# Altium footprint library TPS76912DBVR.PcbLib: 3 footprints
Each footprint in its own frame and in the unit in brackets; x right, y up, seen from the top. Pads: shape width x height; smd on the part's side, far side on the other; paste and mask are expansions set on the pad; w line width, h text height; cw(c..) or ccw(c..) is an arc to the next point about the centre after c.
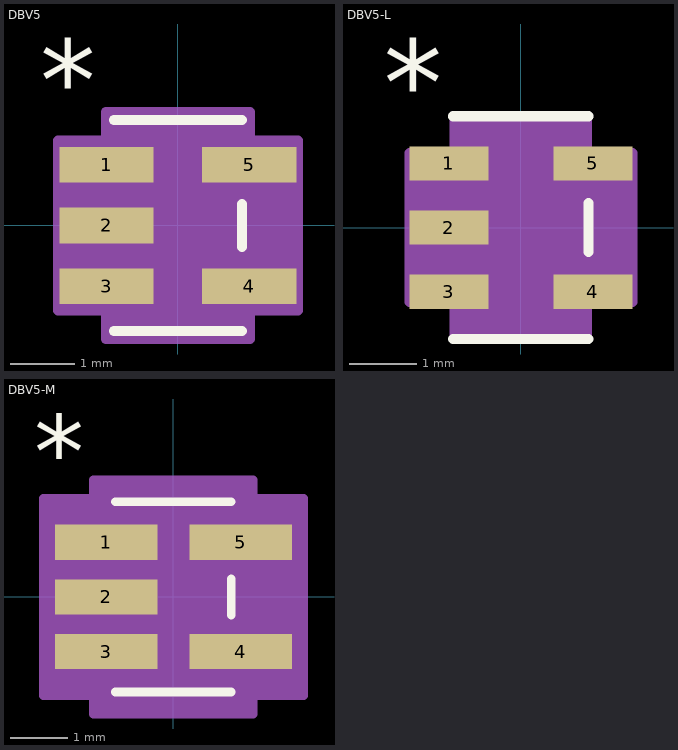
[diagram p0: the footprints below, top view; thin cyan lines are the x and y axes]

## DBV5 [mil]
pads (5):
  rect 58x22 smd: 1(-44,37.4) 2(-44,0) 3(-44,-37.4) 4(44,-37.4) 5(44,37.4)
Top Overlay:
  lines w6: -39.5,-65 39.5,-65 ; -39.5,65 39.5,65 ; 39.5,-13.3 39.5,13.3
  text "*" at -85,65 h50
Mechanical 13:
  lines w0: -12,60 ccw(c0,60) 12,60
  text "*" at -85,65 h50
Mechanical 15:
  region: 44.5,-70 -44.5,-70 -44.5,-52.4 -74,-52.4 -74,52.4 -44.5,52.4 -44.5,70 44.5,70 44.5,52.4 74,52.4 74,-52.4 44.5,-52.4
  lines w6: -74,-52.4 -44.5,-52.4 -44.5,-70 44.5,-70 44.5,-52.4 74,-52.4 74,52.4 44.5,52.4 44.5,70 -44.5,70 -44.5,52.4 -74,52.4 -74,-52.4

## DBV5-L [mil]
pads (5):
  rect 46x20 smd: 1(-42,37.4) 2(-42,0) 3(-42,-37.4) 4(42,-37.4) 5(42,37.4)
Top Overlay:
  lines w6: -39.5,-65 39.5,-65 ; -39.5,65 39.5,65 ; 39.5,-14.3 39.5,14.3
  text "*" at -80,60 h50
Mechanical 13:
  lines w0: -12,60 ccw(c0,60) 12,60
  text "*" at -80,60 h50
Mechanical 15:
  region: 38.5,-64 -38.5,-64 -38.5,-43.4 -65,-43.4 -65,43.4 -38.5,43.4 -38.5,64 38.5,64 38.5,43.4 65,43.4 65,-43.4 38.5,-43.4
  lines w6: -65,-43.4 -38.5,-43.4 -38.5,-64 38.5,-64 38.5,-43.4 65,-43.4 65,43.4 38.5,43.4 38.5,64 -38.5,64 -38.5,43.4 -65,43.4 -65,-43.4

## DBV5-M [mil]
pads (5):
  rect 70x24 smd: 1(-46,37.4) 2(-46,0) 3(-46,-37.4) 4(46,-37.4) 5(46,37.4)
Top Overlay:
  lines w6: -39.5,-65 39.5,-65 ; -39.5,65 39.5,65 ; 39.5,-12.3 39.5,12.3
  text "*" at -95,75 h50
Mechanical 13:
  lines w0: -12,60 ccw(c0,60) 12,60
  text "*" at -95,75 h50
Mechanical 15:
  region: 54.5,-80 -54.5,-80 -54.5,-67.4 -89,-67.4 -89,67.4 -54.5,67.4 -54.5,80 54.5,80 54.5,67.4 89,67.4 89,-67.4 54.5,-67.4
  lines w6: -89,-67.4 -54.5,-67.4 -54.5,-80 54.5,-80 54.5,-67.4 89,-67.4 89,67.4 54.5,67.4 54.5,80 -54.5,80 -54.5,67.4 -89,67.4 -89,-67.4